# Altium schematic symbol library SCH - LEVEL TRANSLATOR - TI TXU0102.SchLib: 1 symbol
Pins are listed as number, name and electrical type; pins without a type are passive.

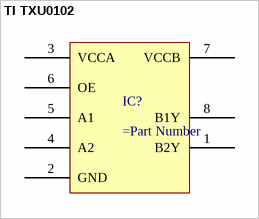
[diagram p0: symbol TI TXU0102]

## TI TXU0102
designator IC?
pins: 1 B2Y, 2 GND, 3 VCCA, 4 A2, 5 A1, 6 OE, 7 VCCB, 8 B1Y